# EAGLE library part MPR121 (library SparkFun-Sensors)
NXP MPR121 Proximity Capacitive Touch Sensor Controller The MPR121 is a capacitive touch sensor controller driven by an I2C interface. The chip can control up to twelve individual electrodes, as well as a simulated thirteenth electrode. The MPR121 also features eight LED driving pins. When these pins are not configured as electrodes, they may be used to drive LEDs. Datasheet <http://www.sparkfun.com/datasheets/Components/MPR121.pdf> SparkFun Products Capacitive Touch Sensor Controller - MPR121QR2 <https://www.sparkfun.com/products/9604> (COM-09604) SparkFun Capacitive Touch Sensor Breakout - MPR121 <https://www.sparkfun.com/products/9695> (SEN-09695) SparkFun Touch Shield <https://www.sparkfun.com/products/12013> (DEV-12013) SparkFun Capacitive Touch Keypad - MPR121 <https://www.sparkfun.com/products/12017> (SEN-12017)
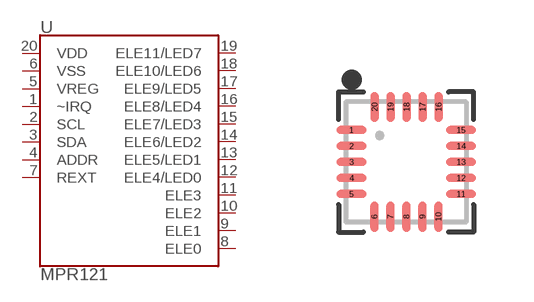
[diagram p10: symbol with the pads of QFN-20; footprint QFN-20]

Designator prefix U

## MPR121 (PROD_ID: IC-09490; SF_ID: COM-09604)  [QFN-20]
1  ~IRQ
2  SCL
3  SDA
4  ADDR
5  VREG
6  VSS
7  REXT
8  ELE0
9  ELE1
10  ELE2
11  ELE3
12  ELE4/LED0
13  ELE5/LED1
14  ELE6/LED2
15  ELE7/LED3
16  ELE8/LED4
17  ELE9/LED5
18  ELE10/LED6
19  ELE11/LED7
20  VDD

## Footprint QFN-20 (pad centres in mm)
20-Pin Quad Flat No-Lead (QFN) (3 x 3 mm) Datasheet <https://www.sparkfun.com/datasheets/Components/MPR121.pdf> Specifications: Pin Count: 20 Dimensions: 3.0 x 3.0 x 0.65 mm Pitch: 0.4 mm Devices Using: MPR121
smd 0.75 x 0.195: 1 -1.367,0.8; 2 -1.367,0.4; 3 -1.367,0; 4 -1.367,-0.4; 5 -1.367,-0.8; 11 1.375,-0.8; 12 1.375,-0.4; 13 1.375,0; 14 1.375,0.4; 15 1.375,0.8
smd 0.195 x 0.75: 6 -0.795,-1.372; 7 -0.395,-1.372; 8 0.005,-1.372; 9 0.405,-1.372; 10 0.805,-1.372; 16 0.81,1.372; 17 0.41,1.372; 18 0.01,1.372; 19 -0.39,1.372; 20 -0.79,1.372